# Altium footprint library BGM11S.PcbLib: 1 footprints
Each footprint in its own frame and in the unit in brackets; x right, y up, seen from the top. Pads: shape width x height; smd on the part's side, far side on the other; paste and mask are expansions set on the pad; w line width, h text height; cw(c..) or ccw(c..) is an arc to the next point about the centre after c.
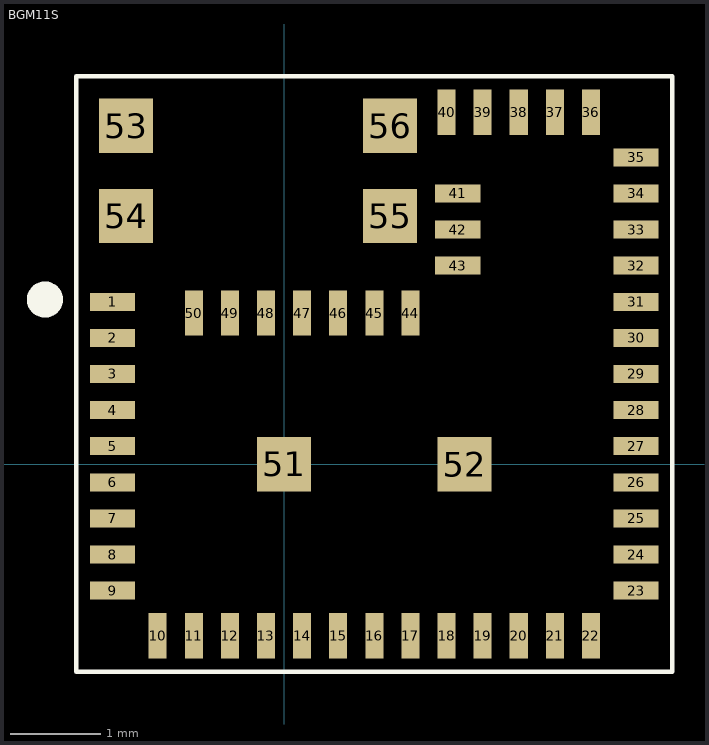
[diagram p0: the footprint, top view; thin cyan lines are the x and y axes]

## BGM11S [mm]
pads (56):
  rect 0.5x0.2 smd: 1(-1.9,1.8) 2(-1.9,1.4) 3(-1.9,1) 4(-1.9,0.6) 5(-1.9,0.2) 6(-1.9,-0.2) 7(-1.9,-0.6) 8(-1.9,-1) 9(-1.9,-1.4) 23(3.9,-1.4) 24(3.9,-1) 25(3.9,-0.6) 26(3.9,-0.2) 27(3.9,0.2) 28(3.9,0.6) 29(3.9,1) 30(3.9,1.4) 31(3.9,1.8) 32(3.9,2.2) 33(3.9,2.6) 34(3.9,3) 35(3.9,3.4) 41(1.925,3) 42(1.925,2.6) 43(1.925,2.2)
  rect 0.2x0.5 smd: 10(-1.4,-1.9) 11(-1,-1.9) 12(-0.6,-1.9) 13(-0.2,-1.9) 14(0.2,-1.9) 15(0.6,-1.9) 16(1,-1.9) 17(1.4,-1.9) 18(1.8,-1.9) 19(2.2,-1.9) 20(2.6,-1.9) 21(3,-1.9) 22(3.4,-1.9) 36(3.4,3.9) 37(3,3.9) 38(2.6,3.9) 39(2.2,3.9) 40(1.8,3.9) 44(1.4,1.675) 45(1,1.675) 46(0.6,1.675) 47(0.2,1.675) 48(-0.2,1.675) 49(-0.6,1.675) 50(-1,1.675)
  rect 0.6x0.6 smd: 51(0,0) 52(2,0) 53(-1.75,3.75) 54(-1.75,2.75) 55(1.175,2.75) 56(1.175,3.75)
Top Overlay:
  circle w0.2: c-2.65,1.825 r0.1
  lines w0.051: -2.3,-2.3 4.3,-2.3 4.3,4.3 -2.3,4.3 -2.3,-2.3
3D body "User Library-BGM11S.STEP": height 1.3, standoff -0.2, extent -2.25,-2.25 4.25,4.25